# EAGLE library part AVR-ISP (library con_STE)
AVR ISP connector (6 pins)
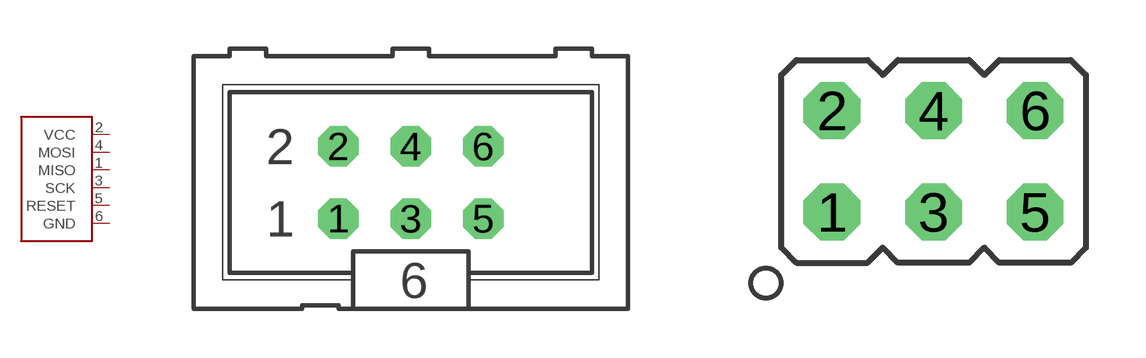
[diagram p0: symbol with the pads of WANNE6G; footprints WANNE6G, JP3Q]

Designator prefix -

## AVR-ISP-6  [WANNE6G]
1  MISO
2  VCC
3  SCK
4  MOSI
5  RESET
6  GND

## AVR-ISP-JUMPER  [JP3Q]
Pads as for WANNE6G

## Footprint WANNE6G (pad centres in mm)
Wannenstecker, 6polig
drill 0.914 octagon: 1 -2.54,-1.27; 2 -2.54,1.27; 3 0,-1.27; 4 0,1.27; 5 2.54,-1.27; 6 2.54,1.27

## Footprint JP3Q (pad centres in mm)
JUMPER
drill 0.914 octagon: 1 -2.54,-1.27; 2 -2.54,1.27; 3 0,-1.27; 4 0,1.27; 5 2.54,-1.27; 6 2.54,1.27